# Altium schematic symbol library Connectors.SchLib: 18 symbols
Pins are listed as number, name and electrical type; pins without a type are passive.

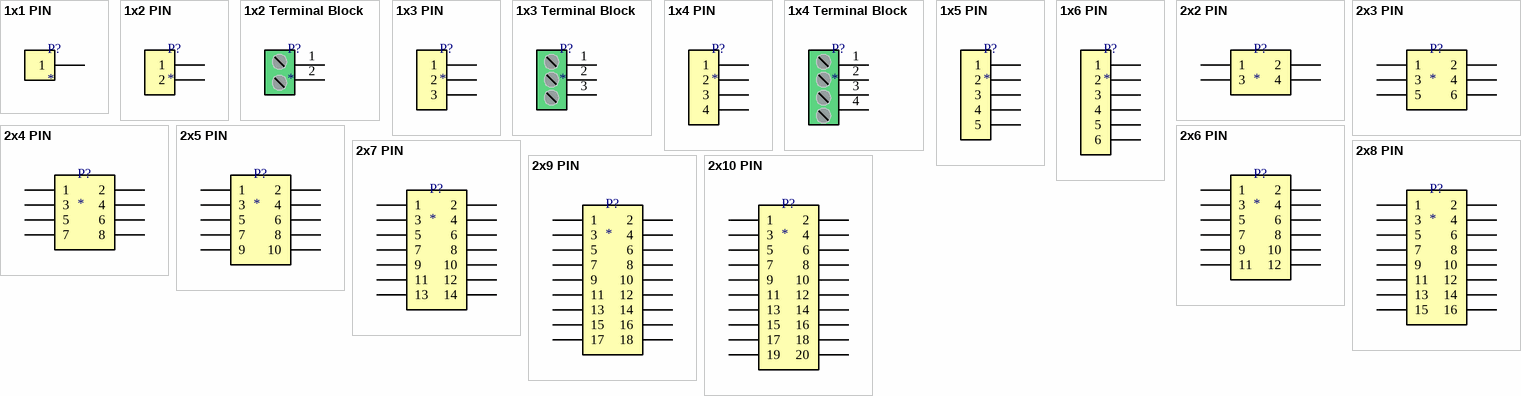
[diagram p0: symbols 1x1 PIN to 2x10 PIN]

## 1x1 PIN
designator P?
pins: 1

## 1x2 PIN
designator P?
pins: 1, 2

## 1x2 Terminal Block
designator P?
pins: 1, 2

## 1x3 PIN
designator P?
pins: 1, 2, 3

## 1x3 Terminal Block
designator P?
pins: 1, 2, 3

## 1x4 PIN
designator P?
pins: 1, 2, 3, 4

## 1x4 Terminal Block
designator P?
pins: 1, 2, 3, 4

## 1x5 PIN
designator P?
pins: 1, 2, 3, 4, 5

## 1x6 PIN
designator P?
pins: 1, 2, 3, 4, 5, 6

## 2x2 PIN
designator P?
pins: 1, 2, 3, 4

## 2x3 PIN
designator P?
pins: 1, 2, 3, 4, 5, 6

## 2x4 PIN
designator P?
pins: 1, 2, 3, 4, 5, 6, 7, 8

## 2x5 PIN
designator P?
pins: 1, 2, 3, 4, 5, 6, 7, 8, 9, 10

## 2x6 PIN
designator P?
pins: 1, 2, 3, 4, 5, 6, 7, 8, 9, 10, 11, 12

## 2x7 PIN
designator P?
pins: 1, 2, 3, 4, 5, 6, 7, 8, 9, 10, 11, 12, 13, 14

## 2x8 PIN
designator P?
pins: 1, 2, 3, 4, 5, 6, 7, 8, 9, 10, 11, 12, 14 13, 14, 15, 16

## 2x9 PIN
designator P?
pins: 1, 2, 3, 4, 5, 6, 7, 8, 9, 10, 11, 12, 14 13, 14, 15, 16, 17, 18

## 2x10 PIN
designator P?
pins: 1, 2, 3, 4, 5, 6, 7, 8, 9, 10, 11, 12, 14 13, 14, 15, 16, 17, 18, 19, 20